# EAGLE library part DENISE (library Amiga)
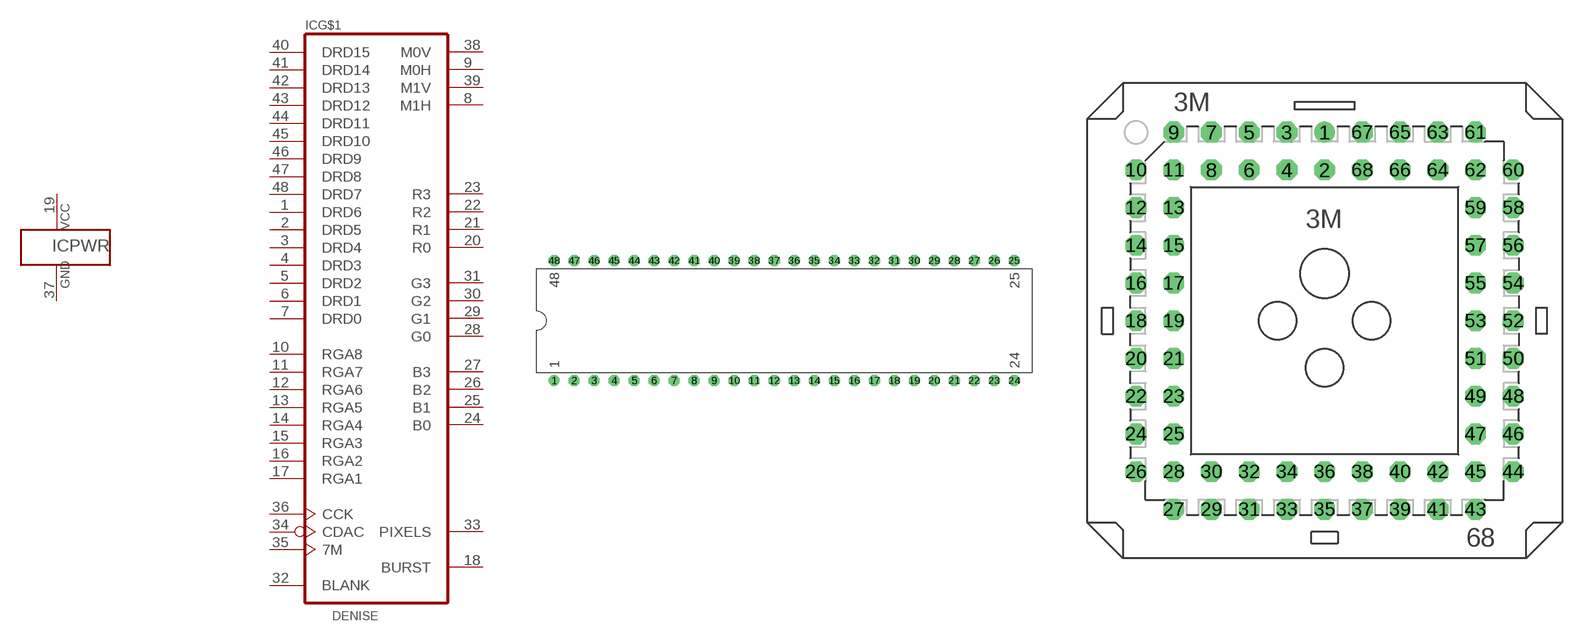
[diagram p4: symbol with the pads of DIP48-6; footprints DIP48-6, PLCC68_T]

Designator prefix IC; gates G$1=DENISE PWR=1VCC-1GND

## DENISE_DIP  [DIP48-6]
1  G$1:DRD6
2  G$1:DRD5
3  G$1:DRD4
4  G$1:DRD3
5  G$1:DRD2
6  G$1:DRD1
7  G$1:DRD0
8  G$1:M1H  in
9  G$1:M0H  in
10  G$1:RGA8  in
11  G$1:RGA7  in
12  G$1:RGA6  in
13  G$1:RGA5  in
14  G$1:RGA4  in
15  G$1:RGA3  in
16  G$1:RGA2  in
17  G$1:RGA1  in
18  G$1:BURST  out
19  PWR:VCC1  pwr
20  G$1:R0  out
21  G$1:R1  out
22  G$1:R2  out
23  G$1:R3  out
24  G$1:B0  out
25  G$1:B1  out
26  G$1:B2  out
27  G$1:B3  out
28  G$1:G0  out
29  G$1:G1  out
30  G$1:G2  out
31  G$1:G3  out
32  G$1:BLANK  in
33  G$1:PIXELS  out
34  G$1:CDAC  in
35  G$1:7M  in
36  G$1:CCK  in
37  PWR:GND1  pwr
38  G$1:M0V  in
39  G$1:M1V  in
40  G$1:DRD15
41  G$1:DRD14
42  G$1:DRD13
43  G$1:DRD12
44  G$1:DRD11
45  G$1:DRD10
46  G$1:DRD9
47  G$1:DRD8
48  G$1:DRD7

## DENISE_PLCC_THT  [PLCC68_T]
1  G$1:DRD6
2  G$1:DRD5
3  G$1:DRD4
4  G$1:DRD3
5  G$1:DRD2
6  G$1:DRD1
8  G$1:DRD0
9  G$1:M1H  in
10  G$1:M0H  in
11  G$1:RGA8  in
12  G$1:RGA7  in
13  G$1:RGA6  in
14  G$1:RGA5  in
15  G$1:RGA4  in
16  G$1:RGA3  in
17  G$1:RGA2  in
18  G$1:RGA1  in
19  G$1:BURST  out
21  PWR:VCC1  pwr
22  G$1:R0  out
23  G$1:R1  out
24  G$1:R2  out
25  G$1:R3  out
26  G$1:B0  out
27  G$1:B1  out
28  G$1:B2  out
29  G$1:B3  out
30  G$1:G0  out
31  G$1:G1  out
32  G$1:G2  out
33  G$1:G3  out
35  G$1:BLANK  in
36  G$1:PIXELS  out
37  G$1:CDAC  in
38  G$1:7M  in
39  G$1:CCK  in
40  PWR:GND1  pwr
41  G$1:M0V  in
42  G$1:M1V  in
43  G$1:DRD15
44  G$1:DRD14
45  G$1:DRD13
46  G$1:DRD12
48  G$1:DRD11
49  G$1:DRD10
50  G$1:DRD9
51  G$1:DRD8
52  G$1:DRD7

## DENISE_PLCC_SMD  [PLCC68_S]
Pads as for PLCC68_T

## DENISE_DIP-LABEL  [DIP48-DENISE]
Pads as for DIP48-6

## Footprint DIP48-6 (pad centres in mm)
drill 0.8 pad 1.4: 1 -27.94,-7.62
drill 0.8 pad 1.4 octagon: 2 -25.4,-7.62; 3 -22.86,-7.62; 4 -20.32,-7.62; 5 -17.78,-7.62; 6 -15.24,-7.62; 7 -12.7,-7.62; 8 -10.16,-7.62; 9 -7.62,-7.62; 10 -5.08,-7.62; 11 -2.54,-7.62; 12 0,-7.62; 13 2.54,-7.62; 14 5.08,-7.62; 15 7.62,-7.62; 16 10.16,-7.62; 17 12.7,-7.62; 18 15.24,-7.62; 19 17.78,-7.62; 20 20.32,-7.62; 21 22.86,-7.62; 22 25.4,-7.62; 23 27.94,-7.62; 24 30.48,-7.62; 25 30.48,7.62; 26 27.94,7.62; 27 25.4,7.62; 28 22.86,7.62; 29 20.32,7.62; 30 17.78,7.62; 31 15.24,7.62; 32 12.7,7.62; 33 10.16,7.62; 34 7.62,7.62; 35 5.08,7.62; 36 2.54,7.62; 37 0,7.62; 38 -2.54,7.62; 39 -5.08,7.62; 40 -7.62,7.62; 41 -10.16,7.62; 42 -12.7,7.62; 43 -15.24,7.62; 44 -17.78,7.62; 45 -20.32,7.62; 46 -22.86,7.62; 47 -25.4,7.62; 48 -27.94,7.62

## Footprint PLCC68_T (pad centres in mm)
drill 0.7 pad 1.4: 1 0,12.7
drill 0.7 pad 1.4 octagon: 2 0,10.16; 3 -2.54,12.7; 4 -2.54,10.16; 5 -5.08,12.7; 6 -5.08,10.16; 7 -7.62,12.7; 8 -7.62,10.16; 9 -10.16,12.7; 10 -12.7,10.16; 11 -10.16,10.16; 12 -12.7,7.62; 13 -10.16,7.62; 14 -12.7,5.08; 15 -10.16,5.08; 16 -12.7,2.54; 17 -10.16,2.54; 18 -12.7,0; 19 -10.16,0; 20 -12.7,-2.54; 21 -10.16,-2.54; 22 -12.7,-5.08; 23 -10.16,-5.08; 24 -12.7,-7.62; 25 -10.16,-7.62; 26 -12.7,-10.16; 27 -10.16,-12.7; 28 -10.16,-10.16; 29 -7.62,-12.7; 30 -7.62,-10.16; 31 -5.08,-12.7; 32 -5.08,-10.16; 33 -2.54,-12.7; 34 -2.54,-10.16; 35 0,-12.7; 36 0,-10.16; 37 2.54,-12.7; 38 2.54,-10.16; 39 5.08,-12.7; 40 5.08,-10.16; 41 7.62,-12.7; 42 7.62,-10.16; 43 10.16,-12.7; 44 12.7,-10.16; 45 10.16,-10.16; 46 12.7,-7.62; 47 10.16,-7.62; 48 12.7,-5.08; 49 10.16,-5.08; 50 12.7,-2.54; 51 10.16,-2.54; 52 12.7,0; 53 10.16,0; 54 12.7,2.54; 55 10.16,2.54; 56 12.7,5.08; 57 10.16,5.08; 58 12.7,7.62; 59 10.16,7.62; 60 12.7,10.16; 61 10.16,12.7; 62 10.16,10.16; 63 7.62,12.7; 64 7.62,10.16; 65 5.08,12.7; 66 5.08,10.16; 67 2.54,12.7; 68 2.54,10.16

## Footprint PLCC68_S (pad centres in mm)
smd 0.6 x 2.2: 1 0,11.9; 2 -1.27,11.9; 3 -2.54,11.9; 4 -3.81,11.9; 5 -5.08,11.9; 6 -6.35,11.9; 7 -7.62,11.9; 8 -8.89,11.9; 9 -10.16,11.9; 27 -10.16,-11.9; 28 -8.89,-11.9; 29 -7.62,-11.9; 30 -6.35,-11.9; 31 -5.08,-11.9; 32 -3.81,-11.9; 33 -2.54,-11.9; 34 -1.27,-11.9; 35 0,-11.9; 36 1.27,-11.9; 37 2.54,-11.9; 38 3.81,-11.9; 39 5.08,-11.9; 40 6.35,-11.9; 41 7.62,-11.9; 42 8.89,-11.9; 43 10.16,-11.9; 61 10.16,11.9; 62 8.89,11.9; 63 7.62,11.9; 64 6.35,11.9; 65 5.08,11.9; 66 3.81,11.9; 67 2.54,11.9; 68 1.27,11.9
smd 2.2 x 0.6: 10 -11.9,10.16; 11 -11.9,8.89; 12 -11.9,7.62; 13 -11.9,6.35; 14 -11.9,5.08; 15 -11.9,3.81; 16 -11.9,2.54; 17 -11.9,1.27; 18 -11.9,0; 19 -11.9,-1.27; 20 -11.9,-2.54; 21 -11.9,-3.81; 22 -11.9,-5.08; 23 -11.9,-6.35; 24 -11.9,-7.62; 25 -11.9,-8.89; 26 -11.9,-10.16; 44 11.9,-10.16; 45 11.9,-8.89; 46 11.9,-7.62; 47 11.9,-6.35; 48 11.9,-5.08; 49 11.9,-3.81; 50 11.9,-2.54; 51 11.9,-1.27; 52 11.9,0; 53 11.9,1.27; 54 11.9,2.54; 55 11.9,3.81; 56 11.9,5.08; 57 11.9,6.35; 58 11.9,7.62; 59 11.9,8.89; 60 11.9,10.16

## Footprint DIP48-DENISE (pad centres in mm)
drill 0.8 pad 1.4: 1 -29.21,-7.62
drill 0.8 pad 1.4 octagon: 2 -26.67,-7.62; 3 -24.13,-7.62; 4 -21.59,-7.62; 5 -19.05,-7.62; 6 -16.51,-7.62; 7 -13.97,-7.62; 8 -11.43,-7.62; 9 -8.89,-7.62; 10 -6.35,-7.62; 11 -3.81,-7.62; 12 -1.27,-7.62; 13 1.27,-7.62; 14 3.81,-7.62; 15 6.35,-7.62; 16 8.89,-7.62; 17 11.43,-7.62; 18 13.97,-7.62; 19 16.51,-7.62; 20 19.05,-7.62; 21 21.59,-7.62; 22 24.13,-7.62; 23 26.67,-7.62; 24 29.21,-7.62; 25 29.21,7.62; 26 26.67,7.62; 27 24.13,7.62; 28 21.59,7.62; 29 19.05,7.62; 30 16.51,7.62; 31 13.97,7.62; 32 11.43,7.62; 33 8.89,7.62; 34 6.35,7.62; 35 3.81,7.62; 36 1.27,7.62; 37 -1.27,7.62; 38 -3.81,7.62; 39 -6.35,7.62; 40 -8.89,7.62; 41 -11.43,7.62; 42 -13.97,7.62; 43 -16.51,7.62; 44 -19.05,7.62; 45 -21.59,7.62; 46 -24.13,7.62; 47 -26.67,7.62; 48 -29.21,7.62